# EAGLE library part ADSP_BF535 (library analog-devices)
Blackfin® Embedded Processor ADSP 535 Auto generated by make-symbol-device-package-bsdl.ulp Rev. 11 Source: ADSP_21535.bsdl http://www.analog.com/UploadedFiles/Data_Sheets/744511807ADSP_BF535_a.pdf
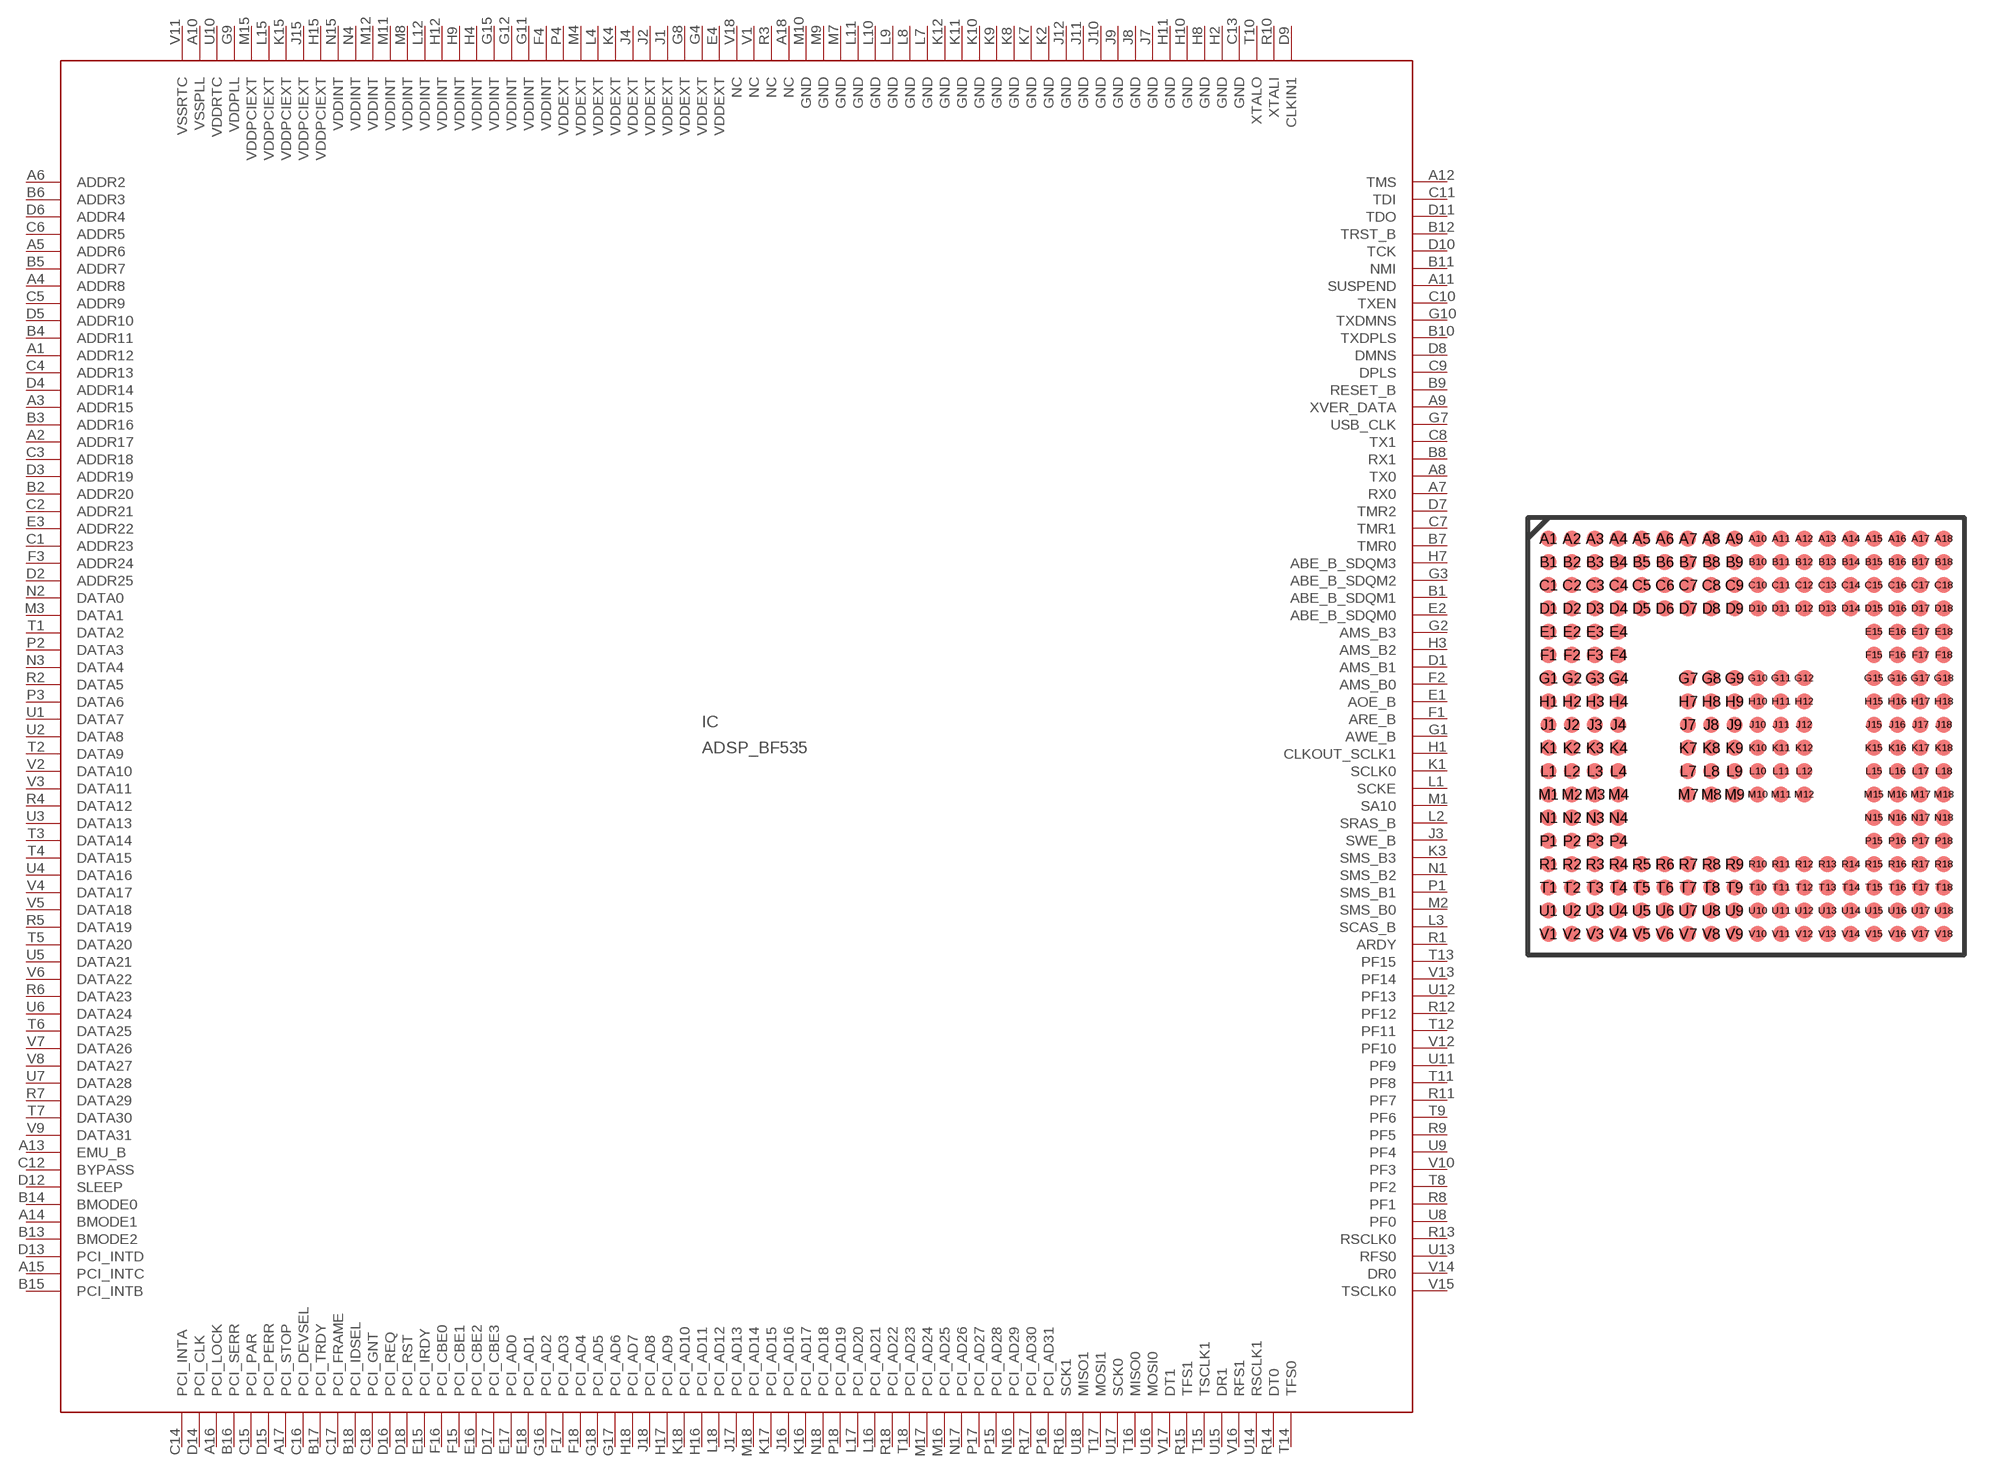
[diagram p106: symbol with the pads of PBGA_B260; footprint PBGA_B260]

Designator prefix IC

## ADSP_BF535 (OC_FARNELL: 1439074; OC_NEWARK: unknown)  [PBGA_B260]
A1  ADDR12  out
A2  ADDR17  out
A3  ADDR15  out
A4  ADDR8  out
A5  ADDR6  out
A6  ADDR2  out
A7  RX0  in
A8  TX0  out
A9  XVER_DATA  in
A10  VSSPLL  pwr
A11  SUSPEND  out
A12  TMS  in
A13  EMU_B  out
A14  BMODE1  in
A15  PCI_INTC  in
A16  PCI_LOCK  in
A17  PCI_STOP
A18  NC  pwr
B1  ABE_B_SDQM1  out
B2  ADDR20  out
B3  ADDR16  out
B4  ADDR11  out
B5  ADDR7  out
B6  ADDR3  out
B7  TMR0
B8  RX1  in
B9  RESET_B  in
B10  TXDPLS  out
B11  NMI  in
B12  TRST_B  in
B13  BMODE2  in
B14  BMODE0  in
B15  PCI_INTB  in
B16  PCI_SERR
B17  PCI_TRDY
B18  PCI_IDSEL  in
C1  ADDR23  out
C2  ADDR21  out
C3  ADDR18  out
C4  ADDR13  out
C5  ADDR9  out
C6  ADDR5  out
C7  TMR1
C8  TX1  out
C9  DPLS  in
C10  TXEN  out
C11  TDI  in
C12  BYPASS  in
C13  GND  pwr
C14  PCI_INTA
C15  PCI_PAR
C16  PCI_DEVSEL
C17  PCI_FRAME
C18  PCI_GNT  in
D1  AMS_B1  out
D2  ADDR25  out
D3  ADDR19  out
D4  ADDR14  out
D5  ADDR10  out
D6  ADDR4  out
D7  TMR2
D8  DMNS  in
D9  CLKIN1  pwr
D10  TCK  in
D11  TDO  out
D12  SLEEP  out
D13  PCI_INTD  in
D14  PCI_CLK  in
D15  PCI_PERR
D16  PCI_REQ  out
D17  PCI_CBE3
D18  PCI_RST
E1  AOE_B  out
E2  ABE_B_SDQM0  out
E3  ADDR22  out
E4  VDDEXT  pwr
E15  PCI_IRDY
E16  PCI_CBE2
E17  PCI_AD0
E18  PCI_AD1
F1  ARE_B  out
F2  AMS_B0  out
F3  ADDR24  out
F4  VDDINT  pwr
F15  PCI_CBE1
F16  PCI_CBE0
F17  PCI_AD3
F18  PCI_AD4
G1  AWE_B  out
G2  AMS_B3  out
G3  ABE_B_SDQM2  out
G4  VDDEXT  pwr
G7  USB_CLK  in
G8  VDDEXT  pwr
G9  VDDPLL  pwr
G10  TXDMNS  out
G11  VDDINT  pwr
G12  VDDINT  pwr
G15  VDDINT  pwr
G16  PCI_AD2
G17  PCI_AD6
G18  PCI_AD5
H1  CLKOUT_SCLK1  hiz
H2  GND  pwr
H3  AMS_B2  out
H4  VDDINT  pwr
H7  ABE_B_SDQM3  out
H8  GND  pwr
H9  VDDINT  pwr
H10  GND  pwr
H11  GND  pwr
H12  VDDINT  pwr
H15  VDDPCIEXT  pwr
H16  PCI_AD11
H17  PCI_AD9
H18  PCI_AD7
J1  VDDEXT  pwr
J2  VDDEXT  pwr
J3  SWE_B  out
J4  VDDEXT  pwr
J7  GND  pwr
J8  GND  pwr
J9  GND  pwr
J10  GND  pwr
J11  GND  pwr
J12  GND  pwr
J15  VDDPCIEXT  pwr
J16  PCI_AD16
J17  PCI_AD13
J18  PCI_AD8
K1  SCLK0  hiz
K2  GND  pwr
K3  SMS_B3  out
K4  VDDEXT  pwr
K7  GND  pwr
K8  GND  pwr
K9  GND  pwr
K10  GND  pwr
K11  GND  pwr
K12  GND  pwr
K15  VDDPCIEXT  pwr
K16  PCI_AD17
K17  PCI_AD15
K18  PCI_AD10
L1  SCKE  out
L2  SRAS_B  out
L3  SCAS_B  out
L4  VDDEXT  pwr
L7  GND  pwr
L8  GND  pwr
L9  GND  pwr
L10  GND  pwr
L11  GND  pwr
L12  VDDINT  pwr
L15  VDDPCIEXT  pwr
L16  PCI_AD21
L17  PCI_AD20
L18  PCI_AD12
M1  SA10  out
M2  SMS_B0  out
M3  DATA1
M4  VDDEXT  pwr
M7  GND  pwr
M8  VDDINT  pwr
M9  GND  pwr
M10  GND  pwr
M11  VDDINT  pwr
M12  VDDINT  pwr
M15  VDDPCIEXT  pwr
M16  PCI_AD25
M17  PCI_AD24
M18  PCI_AD14
N1  SMS_B2  out
N2  DATA0
N3  DATA4
N4  VDDINT  pwr
N15  VDDINT  pwr
N16  PCI_AD29
N17  PCI_AD26
N18  PCI_AD18
P1  SMS_B1  out
P2  DATA3
P3  DATA6
P4  VDDEXT  pwr
P15  PCI_AD28
P16  PCI_AD31
P17  PCI_AD27
P18  PCI_AD19
R1  ARDY  in
R2  DATA5
R3  NC  pwr
R4  DATA12
R5  DATA19
R6  DATA23
R7  DATA29
R8  PF1
R9  PF5
R10  XTALI  pwr
R11  PF7
R12  PF12
R13  RSCLK0
R14  DT0  out
R15  TFS1
R16  SCK1
R17  PCI_AD30
R18  PCI_AD22
T1  DATA2
T2  DATA9
T3  DATA14
T4  DATA15
T5  DATA20
T6  DATA25
T7  DATA30
T8  PF2
T9  PF6
T10  XTALO  pwr
T11  PF8
T12  PF11
T13  PF15
T14  TFS0
T15  TSCLK1
T16  MISO0
T17  MOSI1
T18  PCI_AD23
U1  DATA7
U2  DATA8
U3  DATA13
U4  DATA16
U5  DATA21
U6  DATA24
U7  DATA28
U8  PF0
U9  PF4
U10  VDDRTC  pwr
U11  PF9
U12  PF13
U13  RFS0
U14  RSCLK1
U15  DR1  in
U16  MOSI0
U17  SCK0
U18  MISO1
V1  NC  pwr
V2  DATA10
V3  DATA11
V4  DATA17
V5  DATA18
V6  DATA22
V7  DATA26
V8  DATA27
V9  DATA31
V10  PF3
V11  VSSRTC  pwr
V12  PF10
V13  PF14
V14  DR0  in
V15  TSCLK0
V16  RFS1
V17  DT1  out
V18  NC  pwr

## Footprint PBGA_B260 (pad centres in mm)
ADSP_21535.bsdl Auto generated by make-symbol-device-package-bsdl.ulp Rev. 11 Source: ADSP_21535.bsdl http://www.analog.com/UploadedFiles/Data_Sheets/744511807ADSP_BF535_a.pdf
smd 0.7 x 0.7: A1 -8.5,8.5; A2 -7.5,8.5; A3 -6.5,8.5; A4 -5.5,8.5; A5 -4.5,8.5; A6 -3.5,8.5; A7 -2.5,8.5; A8 -1.5,8.5; A9 -0.5,8.5; A10 0.5,8.5; A11 1.5,8.5; A12 2.5,8.5; A13 3.5,8.5; A14 4.5,8.5; A15 5.5,8.5; A16 6.5,8.5; A17 7.5,8.5; A18 8.5,8.5; B1 -8.5,7.5; B2 -7.5,7.5; B3 -6.5,7.5; B4 -5.5,7.5; B5 -4.5,7.5; B6 -3.5,7.5; B7 -2.5,7.5; B8 -1.5,7.5; B9 -0.5,7.5; B10 0.5,7.5; B11 1.5,7.5; B12 2.5,7.5; B13 3.5,7.5; B14 4.5,7.5; B15 5.5,7.5; B16 6.5,7.5; B17 7.5,7.5; B18 8.5,7.5; C1 -8.5,6.5; C2 -7.5,6.5; C3 -6.5,6.5; C4 -5.5,6.5; C5 -4.5,6.5; C6 -3.5,6.5; C7 -2.5,6.5; C8 -1.5,6.5; C9 -0.5,6.5; C10 0.5,6.5; C11 1.5,6.5; C12 2.5,6.5; C13 3.5,6.5; C14 4.5,6.5; C15 5.5,6.5; C16 6.5,6.5; C17 7.5,6.5; C18 8.5,6.5; D1 -8.5,5.5; D2 -7.5,5.5; D3 -6.5,5.5; D4 -5.5,5.5; D5 -4.5,5.5; D6 -3.5,5.5; D7 -2.5,5.5; D8 -1.5,5.5; D9 -0.5,5.5; D10 0.5,5.5; D11 1.5,5.5; D12 2.5,5.5; D13 3.5,5.5; D14 4.5,5.5; D15 5.5,5.5; D16 6.5,5.5; D17 7.5,5.5; D18 8.5,5.5; E1 -8.5,4.5; E2 -7.5,4.5; E3 -6.5,4.5; E4 -5.5,4.5; E15 5.5,4.5; E16 6.5,4.5; E17 7.5,4.5; E18 8.5,4.5; F1 -8.5,3.5; F2 -7.5,3.5; F3 -6.5,3.5; F4 -5.5,3.5; F15 5.5,3.5; F16 6.5,3.5; F17 7.5,3.5; F18 8.5,3.5; G1 -8.5,2.5; G2 -7.5,2.5; G3 -6.5,2.5; G4 -5.5,2.5; G7 -2.5,2.5; G8 -1.5,2.5; G9 -0.5,2.5; G10 0.5,2.5; G11 1.5,2.5; G12 2.5,2.5; G15 5.5,2.5; G16 6.5,2.5; G17 7.5,2.5; G18 8.5,2.5; H1 -8.5,1.5; H2 -7.5,1.5; H3 -6.5,1.5; H4 -5.5,1.5; H7 -2.5,1.5; H8 -1.5,1.5; H9 -0.5,1.5; H10 0.5,1.5; H11 1.5,1.5; H12 2.5,1.5; H15 5.5,1.5; H16 6.5,1.5; H17 7.5,1.5; H18 8.5,1.5; J1 -8.5,0.5; J2 -7.5,0.5; J3 -6.5,0.5; J4 -5.5,0.5; J7 -2.5,0.5; J8 -1.5,0.5; J9 -0.5,0.5; J10 0.5,0.5; J11 1.5,0.5; J12 2.5,0.5; J15 5.5,0.5; J16 6.5,0.5; J17 7.5,0.5; J18 8.5,0.5; K1 -8.5,-0.5; K2 -7.5,-0.5; K3 -6.5,-0.5; K4 -5.5,-0.5; K7 -2.5,-0.5; K8 -1.5,-0.5; K9 -0.5,-0.5; K10 0.5,-0.5; K11 1.5,-0.5; K12 2.5,-0.5; K15 5.5,-0.5; K16 6.5,-0.5; K17 7.5,-0.5; K18 8.5,-0.5; L1 -8.5,-1.5; L2 -7.5,-1.5; L3 -6.5,-1.5; L4 -5.5,-1.5; L7 -2.5,-1.5; L8 -1.5,-1.5; L9 -0.5,-1.5; L10 0.5,-1.5; L11 1.5,-1.5; L12 2.5,-1.5; L15 5.5,-1.5; L16 6.5,-1.5; L17 7.5,-1.5; L18 8.5,-1.5; M1 -8.5,-2.5; M2 -7.5,-2.5; M3 -6.5,-2.5; M4 -5.5,-2.5; M7 -2.5,-2.5; M8 -1.5,-2.5; M9 -0.5,-2.5; M10 0.5,-2.5; M11 1.5,-2.5; M12 2.5,-2.5; M15 5.5,-2.5; M16 6.5,-2.5; M17 7.5,-2.5; M18 8.5,-2.5; N1 -8.5,-3.5; N2 -7.5,-3.5; N3 -6.5,-3.5; N4 -5.5,-3.5; N15 5.5,-3.5; N16 6.5,-3.5; N17 7.5,-3.5; N18 8.5,-3.5; P1 -8.5,-4.5; P2 -7.5,-4.5; P3 -6.5,-4.5; P4 -5.5,-4.5; P15 5.5,-4.5; P16 6.5,-4.5; P17 7.5,-4.5; P18 8.5,-4.5; R1 -8.5,-5.5; R2 -7.5,-5.5; R3 -6.5,-5.5; R4 -5.5,-5.5; R5 -4.5,-5.5; R6 -3.5,-5.5; R7 -2.5,-5.5; R8 -1.5,-5.5; R9 -0.5,-5.5; R10 0.5,-5.5; R11 1.5,-5.5; R12 2.5,-5.5; R13 3.5,-5.5; R14 4.5,-5.5; R15 5.5,-5.5; R16 6.5,-5.5; R17 7.5,-5.5; R18 8.5,-5.5; T1 -8.5,-6.5; T2 -7.5,-6.5; T3 -6.5,-6.5; T4 -5.5,-6.5; T5 -4.5,-6.5; T6 -3.5,-6.5; T7 -2.5,-6.5; T8 -1.5,-6.5; T9 -0.5,-6.5; T10 0.5,-6.5; T11 1.5,-6.5; T12 2.5,-6.5; T13 3.5,-6.5; T14 4.5,-6.5; T15 5.5,-6.5; T16 6.5,-6.5; T17 7.5,-6.5; T18 8.5,-6.5; U1 -8.5,-7.5; U2 -7.5,-7.5; U3 -6.5,-7.5; U4 -5.5,-7.5; U5 -4.5,-7.5; U6 -3.5,-7.5; U7 -2.5,-7.5; U8 -1.5,-7.5; U9 -0.5,-7.5; U10 0.5,-7.5; U11 1.5,-7.5; U12 2.5,-7.5; U13 3.5,-7.5; U14 4.5,-7.5; U15 5.5,-7.5; U16 6.5,-7.5; U17 7.5,-7.5; U18 8.5,-7.5; V1 -8.5,-8.5; V2 -7.5,-8.5; V3 -6.5,-8.5; V4 -5.5,-8.5; V5 -4.5,-8.5; V6 -3.5,-8.5; V7 -2.5,-8.5; V8 -1.5,-8.5; V9 -0.5,-8.5; V10 0.5,-8.5; V11 1.5,-8.5; V12 2.5,-8.5; V13 3.5,-8.5; V14 4.5,-8.5; V15 5.5,-8.5; V16 6.5,-8.5; V17 7.5,-8.5; V18 8.5,-8.5